# Altium integrated library u-blox.IntLib: 1 symbol
Pins are listed as number, name and electrical type; pins without a type are passive.

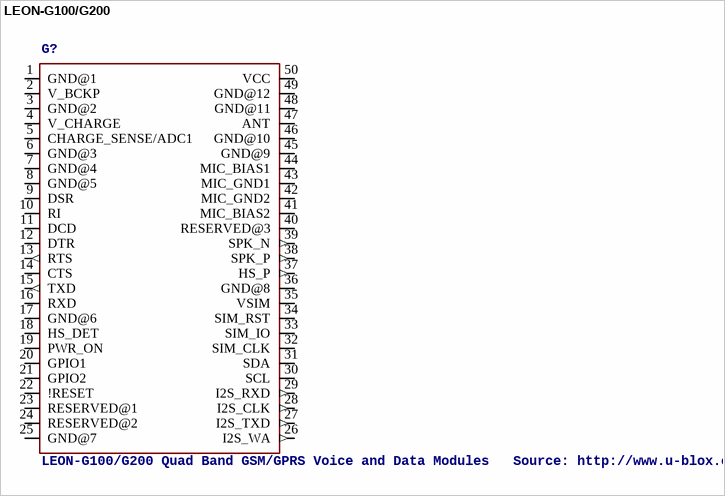
[diagram p0: symbol LEON-G100/G200]

## LEON-G100/G200
designator G?, comment LEON-G100/G200 Quad Band GSM/GPRS Voice and Data Modules   Source: http://www.u-blox.com
OC_FARNELL: unknown; OC_NEWARK: unknown
footprint LEON-G100/G200
pins: 1 GND@1 (power), 2 V_BCKP, 3 GND@2 (power), 4 V_CHARGE, 5 CHARGE_SENSE/ADC1, 6 GND@3 (power), 7 GND@4 (power), 8 GND@5 (power), 9 DSR, 10 RI, 11 DCD, 12 DTR, 13 RTS (out), 14 CTS, 15 TXD (out), 16 RXD, 17 GND@6 (power), 18 HS_DET, 19 PWR_ON, 20 GPIO1, 21 GPIO2, 22 !RESET, 23 RESERVED@1, 24 RESERVED@2, 25 GND@7 (power), 26 I2S_WA (out), 27 I2S_TXD (out), 28 I2S_CLK (out), 29 I2S_RXD (out), 30 SCL, 31 SDA, 32 SIM_CLK, 33 SIM_IO, 34 SIM_RST, 35 VSIM, 36 GND@8 (power), 37 HS_P (out), 38 SPK_P (out), 39 SPK_N (out), 40 RESERVED@3, 41 MIC_BIAS2, 42 MIC_GND2, 43 MIC_GND1, 44 MIC_BIAS1, 45 GND@9 (power), 46 GND@10 (power), 47 ANT, 48 GND@11 (power), 49 GND@12 (power), 50 VCC (power)